# Altium footprint library EISI.PcbLib: 695 footprints (part 5 of 44)
Each footprint in its own frame and in the unit in brackets; x right, y up, seen from the top. Pads: shape width x height; smd on the part's side, far side on the other; paste and mask are expansions set on the pad; w line width, h text height; cw(c..) or ccw(c..) is an arc to the next point about the centre after c.
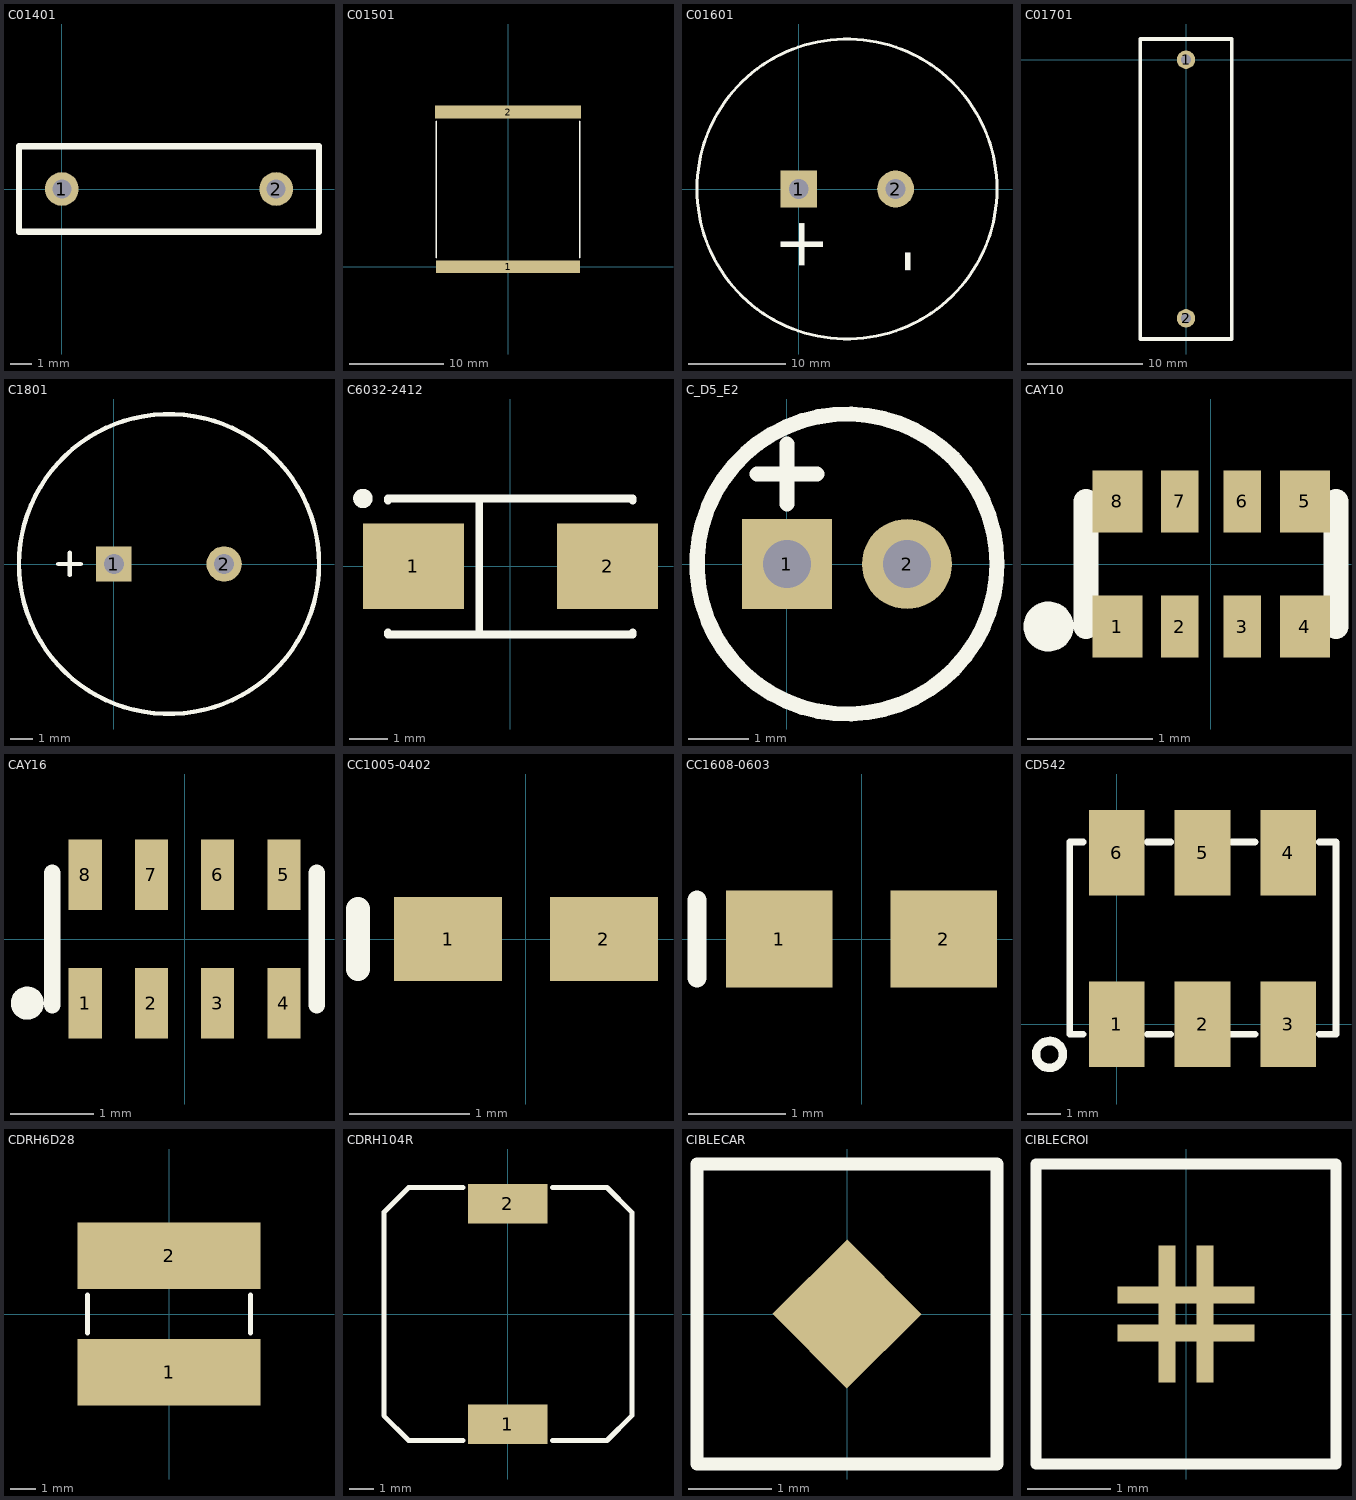
[diagram p4: the footprints below, top view; thin cyan lines are the x and y axes]

## C01401 [mm]
pads (2):
  round 1.6 hole 0.9: 1(0,0) 2(10.16,0)
TopOverlay:
  lines w0.305: -2.032,-2.032 12.192,-2.032 12.192,2.032 -2.032,2.032 -2.032,-2.032

## C01501 [mm]
pads (2):
  rect 15.3x1.35 smd: 1(0,0)
  rect 15.494x1.35 smd: 2(0,16.4)
TopOverlay:
  lines w0.2: -7.6,1 -7.6,15.4 ; 7.6,1 7.6,15.4

## C01601 [mil]
pads (2):
  rect 150x150 hole 80: 1(0,0)
  round 150 hole 80: 2(393.7,0)
TopOverlay:
  circle w12: c196.06,0 r610.24
  text "+" at 100,-340 h200
  text "-" at 520,-345 h200

## C01701 [mm]
pads (2):
  round 1.6 hole 0.9: 1(0,0) 2(0,-22.5)
TopOverlay:
  lines w0.305: -4,-24.3 4,-24.3 4,1.8 -4,1.8 -4,-24.3

## C1801 [mm] "Utra Capacitor"
height 7.5
pads (2):
  rect 1.6x1.6 hole 0.9: 1(0,0)
  round 1.6 hole 0.9: 2(5,0)
TopOverlay:
  circle w0.2: c2.5,0 r6.8
  lines w0.2: -2.516,0 -1.5,0 ; -2,-0.5 -2,0.516

## C6032-2412 [mm] "Capacitor, SM Tantalum; Body 6.0 x 3.2 mm (LxW typ)"
height 3.4
pads (2):
  rect 2.6x2.2 smd: 1(-2.5,0) 2(2.5,0)
TopOverlay:
  circle w0.25: c-3.8,1.75 r0.125
  lines w0.2: -3.15,-1.7 -3.15,-1.75 3.15,-1.75 3.15,-1.7 ; -3.15,1.7 -3.15,1.75 3.15,1.75 3.15,1.7 ; -0.8,-1.75 -0.8,1.75

## C_D5_E2 [mm] "Condensateur PTH diamètre 5mm entraxe 2mm"
height 11
pads (2):
  rect 1.5x1.5 hole 0.8: 1(0,0)
  round 1.5 hole 0.8: 2(2,0)
TopOverlay:
  circle w0.254: c1,0 r2.5
  lines w0.254: -0.5,1.5 0.5,1.5 ; 0,1 0,2

## CAY10 [mm] "Chip Resistor Array 2 x 1mm"
height 0.35
pads (8):
  rect 0.4x0.5 smd: 1(-0.75,-0.5) 4(0.75,-0.5) 5(0.75,0.5) 8(-0.75,0.5)
  rect 0.3x0.5 smd: 2(-0.25,-0.5) 3(0.25,-0.5) 6(0.25,0.5) 7(-0.25,0.5)
TopOverlay:
  circle w0.2: c-1.3,-0.5 r0.1
  lines w0.2: -1,-0.5 -1,0.5 ; 1,-0.5 1,0.5

## CAY16 [mm] "CAY 16 Resistor Arrays 3.2 x 1.6mm"
pads (8):
  rect 0.4x0.85 smd: 1(-1.2,-0.775) 2(-0.4,-0.775) 3(0.4,-0.775) 4(1.2,-0.775) 5(1.2,0.775) 6(0.4,0.775) 7(-0.4,0.775) 8(-1.2,0.775)
TopOverlay:
  circle w0.2: c-1.9,-0.775 r0.1
  lines w0.2: -1.6,-0.8 -1.6,0.8 ; 1.6,-0.8 1.6,0.8

## CC1005-0402 [mm] "Chip Capacitor; Body 1.0 x 0.5 mm (LxW typ)"
height 0.6
pads (2):
  rect 0.9x0.7 smd: 1(-0.65,0) 2(0.65,0)
TopOverlay:
  lines w0.2: -1.4,-0.25 -1.4,0.25

## CC1608-0603 [mm] "Chip Capacitor; Body 1.6 x 0.8 mm (LxW typ)"
height 0.85
pads (2):
  rect 1.1x1 smd: 1(-0.85,0) 2(0.85,0)
TopOverlay:
  lines w0.2: -1.7,-0.4 -1.7,0.4

## CD542 [mm] "RF Transformer Mini-Circuits"
height 2.9
pads (6):
  rect 1.65x2.54 smd: 1(0,0) 2(2.54,0) 3(5.08,0) 4(5.08,5.08) 5(2.54,5.08) 6(0,5.08)
TopOverlay:
  circle w0.254: c-2,-0.9 r0.4
  lines w0.2: -1,-0.3 -1.4,-0.3 -1.4,5.4 -1,5.4 ; 0.9,-0.3 1.6,-0.3 ; 0.9,5.4 1.6,5.4 ; 3.4,-0.3 4.1,-0.3 ; 3.4,5.4 4.1,5.4 ; 6,-0.3 6.5,-0.3 6.5,5.4 6,5.4

## CDRH6D28 [mm] "Inductor Sumida 7x7mm"
height 2.8
pads (2):
  rect 7.3x2.65 smd: 1(0,-2.325) 2(0,2.325)
TopOverlay:
  lines w0.2: -3.25,-0.75 -3.25,0.75 ; 3.25,-0.75 3.25,0.75

## CDRH104R [mm] "INDUCTOR POWER 10.5×10.3mm Max.(L×W), 4.0mm"
height 3.8
pads (2):
  rect 3.2x1.6 smd: 1(0,-4.45) 2(0,4.45)
TopOverlay:
  lines w0.2: -4.991,4.109 -3.991,5.109 ; -1.8,-5.1 -4,-5.1 ; -1.8,5.1 -4,5.1 -5,4.1 -5,-4.1 ; 1.8,-5.1 4,-5.1 5,-4.1 5,4.1 4,5.1 1.8,5.1 ; 4.009,-5.091 5.009,-4.091 ; 4.009,5.091 5.009,4.091 ; -5,-4.1 -4,-5.1 ; -5,-4.1 -4,-5.1

## CIBLECAR [mil]
pads (2):
  rect 50x50 smd rot 135: ""(0,0)
  rect 130x130 on Top Solder: ""(0,0)
TopOverlay:
  lines w6: -70.87,-70.87 -70.87,70.87 70.87,70.87 70.87,-70.87 -70.87,-70.87

## CIBLECROI [mil]
pads (5):
  rect 8x65 smd: ""(-9,0) ""(9,0)
  rect 65x8 smd: ""(0,-9) ""(0,9)
  rect 130x130 on Top Solder: ""(0,0)
TopOverlay:
  lines w5: -71,-71 -71,71 71,71 71,-71 -71,-71